# Altium schematic symbol library IC.SchLib: 1 symbol
Pins are listed as number, name and electrical type; pins without a type are passive.

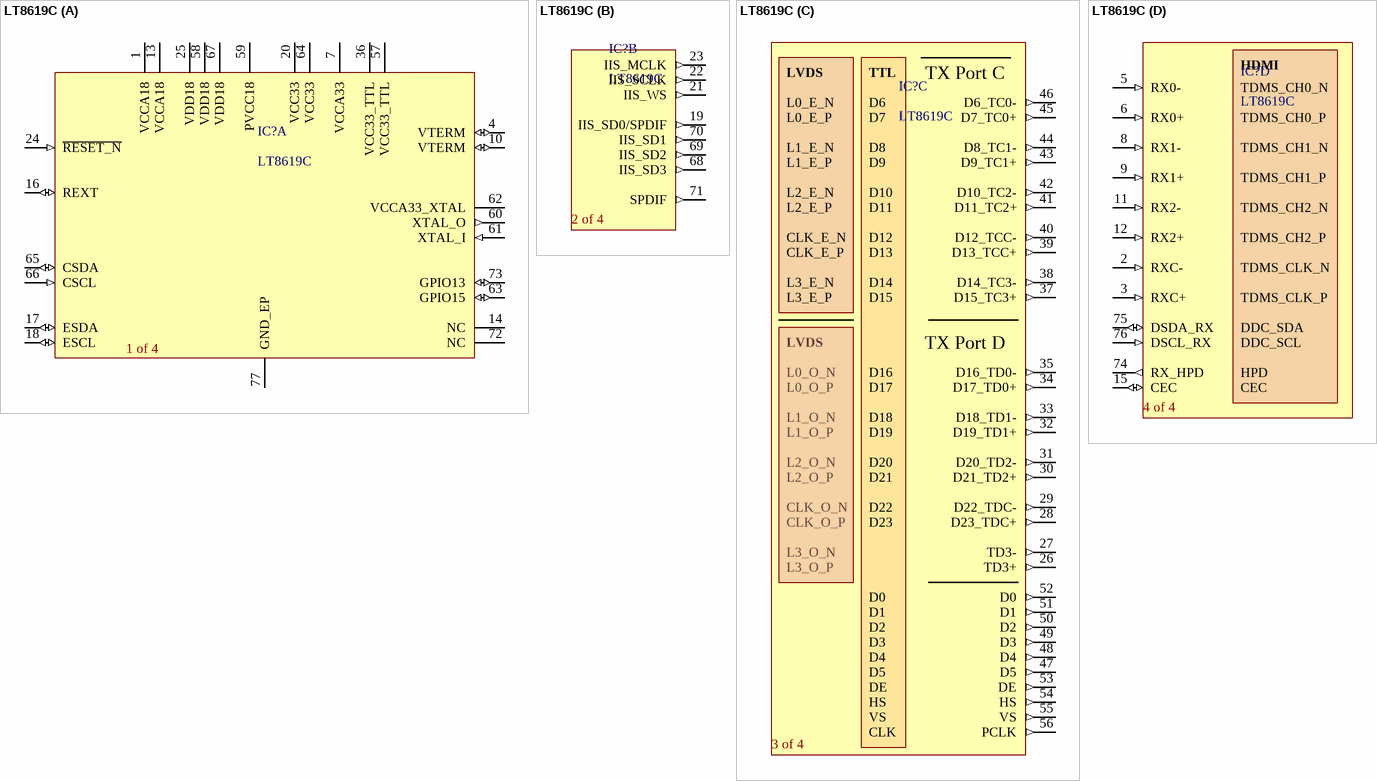
[diagram p0: symbol LT8619C]

## LT8619C
designator IC?
Lontium LT8619C HDMI to TTL/LVDS Converter; Value: LT8619C; Manufacturer: Lontium; Part Number: LT8619C; Package: QFN76
footprint Lontium_LT8619C_QFN76 (HDMI to LVDS,TTL converter)
part A pins: 1 VCCA18 (power), 4 VTERM (io), 7 VCCA33 (power), 10 VTERM (io), 13 VCCA18 (power), 14 NC, 16 REXT (io), 17 ESDA (io), 18 ESCL (io), 20 VCC33 (power), 24 ~{RESET_N} (in), 25 VDD18 (power), 36 VCC33_TTL (power), 57 VCC33_TTL (power), 58 VDD18 (power), 59 PVCC18 (power), 60 XTAL_O (out), 61 XTAL_I (in), 62 VCCA33_XTAL (power), 63 GPIO15 (io), 64 VCC33 (power), 65 CSDA (io), 66 CSCL (in), 67 VDD18 (power), 72 NC, 73 GPIO13 (io), 77 GND_EP (power)
part B pins: 19 IIS_SD0/SPDIF (out), 21 IIS_WS (out), 22 IIS_SCLK (out), 23 IIS_MCLK (out), 68 IIS_SD3 (out), 69 IIS_SD2 (out), 70 IIS_SD1 (out), 71 SPDIF (out)
part C pins: 26 TD3+ (out), 27 TD3- (out), 28 D23_TDC+ (out), 29 D22_TDC- (out), 30 D21_TD2+ (out), 31 D20_TD2- (out), 32 D19_TD1+ (out), 33 D18_TD1- (out), 34 D17_TD0+ (out), 35 D16_TD0- (out), 37 D15_TC3+ (out), 38 D14_TC3- (out), 39 D13_TCC+ (out), 40 D12_TCC- (out), 41 D11_TC2+ (out), 42 D10_TC2- (out), 43 D9_TC1+ (out), 44 D8_TC1- (out), 45 D7_TC0+ (out), 46 D6_TC0- (out), 47 D5 (out), 48 D4 (out), 49 D3 (out), 50 D2 (out), 51 D1 (out), 52 D0 (out), 53 DE (out), 54 HS (out), 55 VS (out), 56 PCLK (out)
part D pins: 2 RXC- (in), 3 RXC+ (in), 5 RX0- (in), 6 RX0+ (in), 8 RX1- (in), 9 RX1+ (in), 11 RX2- (in), 12 RX2+ (in), 15 CEC (io), 74 RX_HPD (out), 75 DSDA_RX (io), 76 DSCL_RX (in)
part A text: 1 of 4
part B text: 2 of 4
part C text: LVDS; TTL; TX Port C; L0_E_N; D6; L0_E_P; D7; L1_E_N; D8; L1_E_P; D9; L2_E_N; D10; L2_E_P; D11; CLK_E_N; D12; CLK_E_P; D13; L3_E_N; D14; L3_E_P; D15; TX Port D; L0_O_N; D16; L0_O_P; D17; L1_O_N; D18; L1_O_P; D19; L2_O_N; D20; L2_O_P; D21; CLK_O_N; D22; CLK_O_P; D23; L3_O_N; L3_O_P; CLK; 3 of 4
part D text: HDMI; TDMS_CH0_N; TDMS_CH0_P; TDMS_CH1_N; TDMS_CH1_P; TDMS_CH2_N; TDMS_CH2_P; TDMS_CLK_N; TDMS_CLK_P; DDC_SDA; DDC_SCL; HPD; 4 of 4